# Altium footprint library 蜂鸣器.PcbLib: 5 footprints
Each footprint in its own frame and in the unit in brackets; x right, y up, seen from the top. Pads: shape width x height; smd on the part's side, far side on the other; paste and mask are expansions set on the pad; w line width, h text height; cw(c..) or ccw(c..) is an arc to the next point about the centre after c.
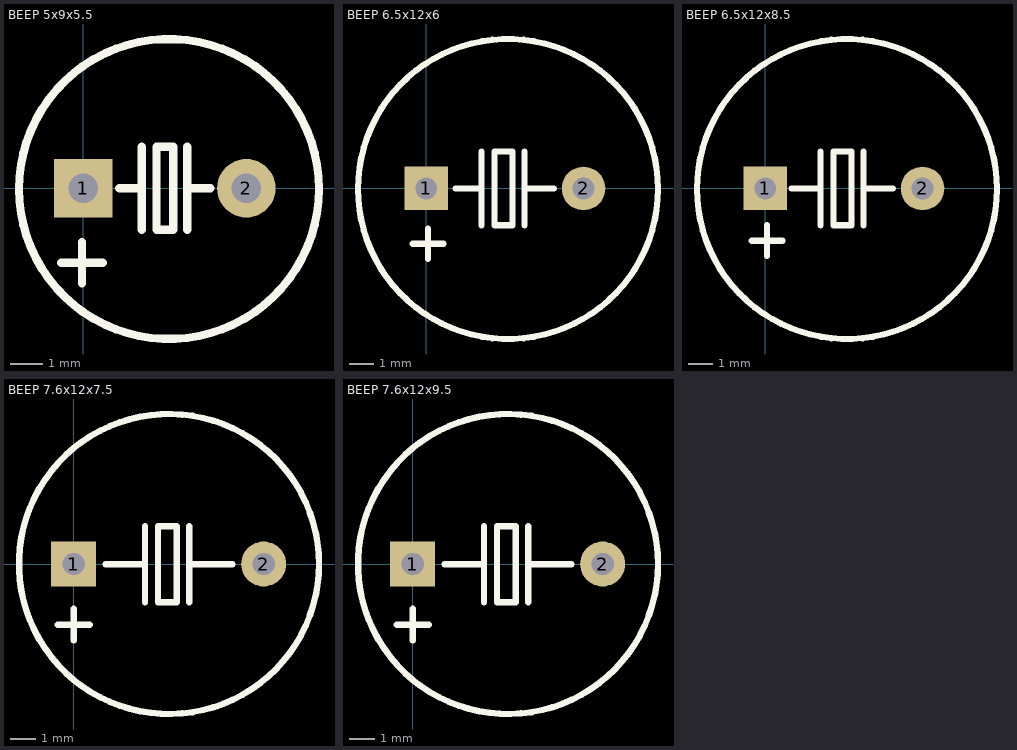
[diagram p0: the footprints below, top view; thin cyan lines are the x and y axes]

## BEEP 5x9x5.5 [mm]
pads (2):
  rect 1.8x1.8 hole 0.9: 1(0,0)
  round 1.8 hole 0.9: 2(5,0)
Top Overlay:
  circle w0.254: c2.627,-0.023 r4.6
  lines w0.254: -0.675,-2.286 0.595,-2.286 ; -0.04,-2.921 -0.04,-1.651 ; 1.103,0 1.791,0 ; 1.791,-1.27 1.791,1.27 ; 3.185,-1.27 3.185,1.27 ; 3.312,0 3.897,0 ; 2.246,-1.27 2.754,-1.27 2.754,1.27 2.246,1.27 2.246,-1.27
3D body "BEEP 5x9x5.5.STEP": height 5.45, standoff -3.55, extent -1.96,-4.445 7.04,4.555

## BEEP 6.5x12x6 [mm]
pads (2):
  rect 1.8x1.8 hole 0.9: 1(0,0)
  round 1.8 hole 0.9: 2(6.5,0)
Top Overlay:
  circle w0.254: c3.377,-0.023 r6.2
  lines w0.254: -0.56,-2.286 0.71,-2.286 ; 0.075,-2.921 0.075,-1.651 ; 1.218,0 2.287,0 ; 2.287,-1.524 2.287,1.524 ; 4.062,-1.524 4.062,1.524 ; 4.062,0 5.282,0 ; 2.812,-1.524 3.562,-1.524 3.562,1.524 2.812,1.524 2.812,-1.524
3D body "BEEP 6.5x12x6.STEP": height 6.05, standoff -3.25, extent -2.698,-5.969 9.302,6.031

## BEEP 6.5x12x8.5 [mm]
pads (2):
  rect 1.8x1.8 hole 0.9: 1(0,0)
  round 1.8 hole 0.9: 2(6.5,0)
Top Overlay:
  circle w0.254: c3.377,-0.023 r6.2
  lines w0.254: -0.56,-2.159 0.71,-2.159 ; 0.075,-2.794 0.075,-1.524 ; 1.091,0 2.287,0 ; 2.287,-1.524 2.287,1.524 ; 4.062,-1.524 4.062,1.524 ; 4.062,0 5.282,0 ; 2.812,-1.524 2.812,1.524 3.562,1.524 3.562,-1.524 2.812,-1.524
3D body "BEEP 6.5x12x8.5.STEP": height 8.55, standoff -3.25, extent -2.794,-6 9.206,6

## BEEP 7.6x12x7.5 [mm]
pads (2):
  rect 1.8x1.8 hole 0.9: 1(0,0)
  round 1.8 hole 0.9: 2(7.6,0)
Top Overlay:
  circle w0.254: c3.811,0 r6.001
  lines w0.254: -0.634,-2.424 0.636,-2.424 ; 0.001,-3.059 0.001,-1.789 ; 1.271,-0.011 2.848,-0.011 ; 2.848,-1.535 2.848,1.513 ; 4.623,-1.535 4.623,1.513 ; 4.623,-0.011 6.351,-0.011 ; 3.373,-1.535 3.373,1.513 4.123,1.513 4.123,-1.535 3.373,-1.535
3D body "BEEP 7.6x12x7.5.STEP": height 7.55, standoff -3.25, extent -2.19,-5.969 9.81,6.031

## BEEP 7.6x12x9.5 [mm]
pads (2):
  rect 1.8x1.8 hole 0.9: 1(0,0)
  round 1.8 hole 0.9: 2(7.6,0)
Top Overlay:
  circle w0.254: c3.811,0 r6.001
  lines w0.254: -0.634,-2.424 0.636,-2.424 ; 0.001,-3.059 0.001,-1.789 ; 1.271,-0.011 2.848,-0.011 ; 2.848,-1.535 2.848,1.513 ; 4.623,-1.535 4.623,1.513 ; 4.623,-0.011 6.351,-0.011 ; 3.373,-1.535 3.373,1.513 4.123,1.513 4.123,-1.535 3.373,-1.535
3D body "BEEP 7.6x12x9.5.STEP": height 9.55, standoff -3.25, extent -2.19,-5.969 9.81,6.031